# Altium footprint library LCC_Sq_M.PcbLib: 2 footprints
Each footprint in its own frame and in the unit in brackets; x right, y up, seen from the top. Pads: shape width x height; smd on the part's side, far side on the other; paste and mask are expansions set on the pad; w line width, h text height; cw(c..) or ccw(c..) is an arc to the next point about the centre after c.
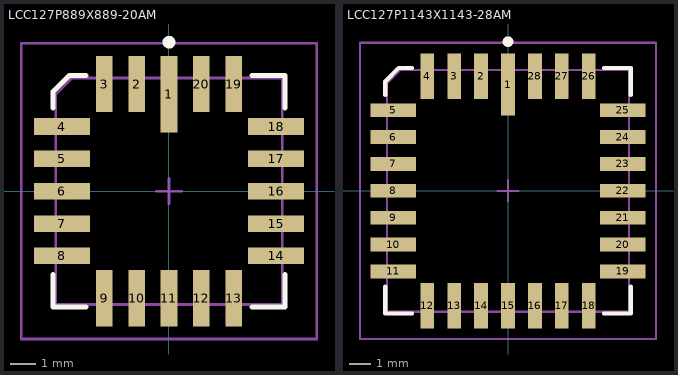
[diagram p0: the footprints below, top view; thin cyan lines are the x and y axes]

## LCC127P889X889-20AM [mm] "LCC, 20-Pins, Body 8.9x8.9mm, Pitch 1.27mm, IPC Low Density"
height 1.91
pads (20):
  rect 0.65x3 smd: 1(0,3.8)
  rect 0.65x2.2 smd: 2(-1.27,4.2) 3(-2.54,4.2) 9(-2.54,-4.2) 10(-1.27,-4.2) 11(0,-4.2) 12(1.27,-4.2) 13(2.54,-4.2) 19(2.54,4.2) 20(1.27,4.2)
  rect 2.2x0.65 smd: 4(-4.2,2.54) 5(-4.2,1.27) 6(-4.2,0) 7(-4.2,-1.27) 8(-4.2,-2.54) 14(4.2,-2.54) 15(4.2,-1.27) 16(4.2,0) 17(4.2,1.27) 18(4.2,2.54)
Top Overlay:
  circle w0.25: c0,5.85 r0.125
  lines w0.2: -4.55,-3.265 -4.55,-4.55 -3.265,-4.55 ; -4.55,3.265 -4.55,3.908 -3.908,4.55 -3.265,4.55 ; 3.265,-4.55 4.55,-4.55 4.55,-3.265 ; 3.265,4.55 4.55,4.55 4.55,3.265
Mechanical 13:
  lines w0.1: -4.445,-4.445 4.445,-4.445 4.445,4.445 -3.802,4.445 -4.445,3.802 -4.445,-4.445
Mechanical 15:
  lines w0.1: -0.5,0 0.5,0 ; 0,-0.5 0,0.5 ; -5.8,-5.8 5.8,-5.8 5.8,5.8 -5.8,5.8 -5.8,-5.8
3D body: height 1.91, standoff 0, extent -4.445,-4.445 4.445,4.445

## LCC127P1143X1143-28AM [mm] "LCC, 28-Pins, Body 11.4x11.4mm, Pitch 1.27mm, IPC Low Density"
height 1.87
pads (28):
  rect 0.65x2.95 smd: 1(0,5.025)
  rect 0.65x2.15 smd: 2(-1.27,5.425) 3(-2.54,5.425) 4(-3.81,5.425) 12(-3.81,-5.425) 13(-2.54,-5.425) 14(-1.27,-5.425) 15(0,-5.425) 16(1.27,-5.425) 17(2.54,-5.425) 18(3.81,-5.425) 26(3.81,5.425) 27(2.54,5.425) 28(1.27,5.425)
  rect 2.15x0.65 smd: 5(-5.425,3.81) 6(-5.425,2.54) 7(-5.425,1.27) 8(-5.425,0) 9(-5.425,-1.27) 10(-5.425,-2.54) 11(-5.425,-3.81) 19(5.425,-3.81) 20(5.425,-2.54) 21(5.425,-1.27) 22(5.425,0) 23(5.425,1.27) 24(5.425,2.54) 25(5.425,3.81)
Top Overlay:
  circle w0.25: c0,7.05 r0.125
  lines w0.2: -5.8,-4.535 -5.8,-5.8 -4.535,-5.8 ; -5.8,4.535 -5.8,5.168 -5.168,5.8 -4.535,5.8 ; 4.535,-5.8 5.8,-5.8 5.8,-4.535 ; 4.535,5.8 5.8,5.8 5.8,4.535
Mechanical 13:
  lines w0.1: -5.715,-5.715 5.715,-5.715 5.715,5.715 -5.082,5.715 -5.715,5.082 -5.715,-5.715
Mechanical 15:
  lines w0.1: -0.5,0 0.5,0 ; 0,-0.5 0,0.5 ; -7,-7 7,-7 7,7 -7,7 -7,-7
3D body: height 1.87, standoff 0, extent -5.715,-5.715 5.715,5.715